# Altium footprint library SOT95P280X145-6N.PcbLib: 1 footprints
Each footprint in its own frame and in the unit in brackets; x right, y up, seen from the top. Pads: shape width x height; smd on the part's side, far side on the other; paste and mask are expansions set on the pad; w line width, h text height; cw(c..) or ccw(c..) is an arc to the next point about the centre after c.
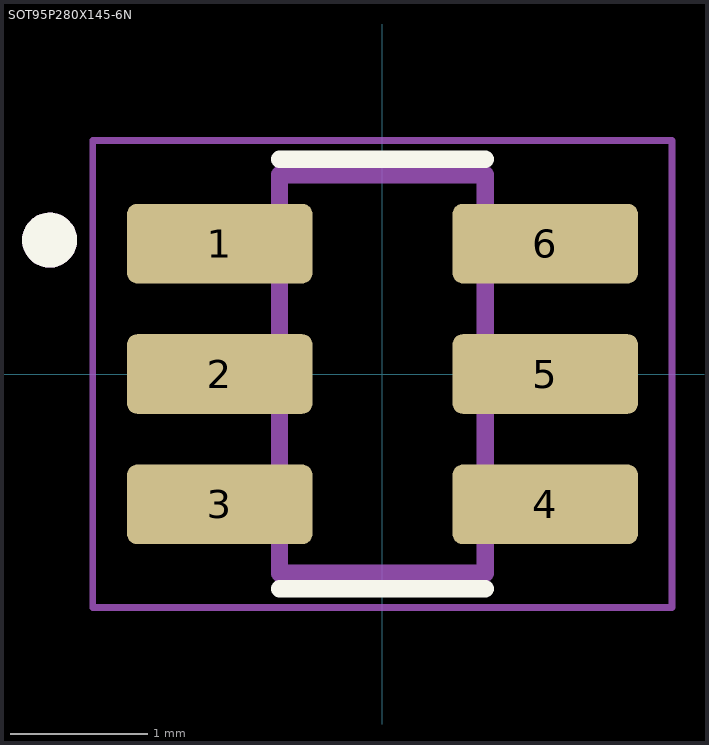
[diagram p0: the footprint, top view; thin cyan lines are the x and y axes]

## SOT95P280X145-6N [mm]
pads (6):
  rrect25% 1.35x0.58 smd: 1(-1.185,0.95) 2(-1.185,0) 3(-1.185,-0.95) 4(1.185,-0.95) 5(1.185,0) 6(1.185,0.95)
Top Overlay:
  circle w0.2: c-2.425,0.975 r0.1
  lines w0.127: -0.75,-1.565 0.75,-1.565 ; -0.75,1.565 0.75,1.565
Mechanical 13:
  circle w0.2: c-2.425,0.975 r0.1
  lines w0.127: -0.75,-1.45 0.75,-1.45 0.75,1.45 -0.75,1.45 -0.75,-1.45
Mechanical 15:
  lines w0.05: -2.11,-1.7 2.11,-1.7 2.11,1.7 -2.11,1.7 -2.11,-1.7